# Altium footprint library FQP30N06L.PcbLib: 1 footprints
Each footprint in its own frame and in the unit in brackets; x right, y up, seen from the top. Pads: shape width x height; smd on the part's side, far side on the other; paste and mask are expansions set on the pad; w line width, h text height; cw(c..) or ccw(c..) is an arc to the next point about the centre after c.
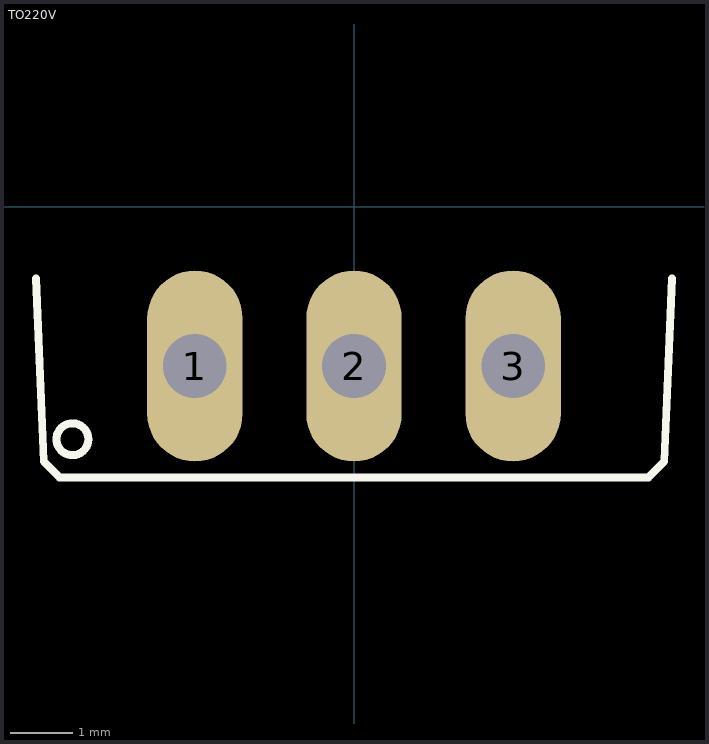
[diagram p0: the footprint, top view; thin cyan lines are the x and y axes]

## TO220V [mil]
pads (3):
  oval 60x120 hole 40: 1(-100,-100) 2(0,-100) 3(100,-100)
Top Overlay:
  circle w5: c-177,-146 r10
  lines w5: -200,-45 -195,-160 -185,-170 185,-170 195,-160 200,-45
Mechanical 13:
  text "3" at 75.06,-125.1 h50.04
  text "2" at -25.03,-125.17 h50.07
  text "1" at -125.25,-125.25 h50.1
3D body "step_temp.STEP": height 781, standoff -401, extent -198.75,-70.5 198.75,104.5